# Altium integrated library micro_sd.IntLib: 1 symbol
Pins are listed as number, name and electrical type; pins without a type are passive.

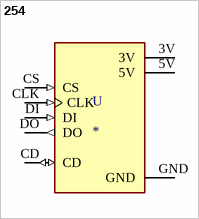
[diagram p0: symbol 254]

## 254
designator U
MICROSD CARD BREAKOUT 5V OR 3V; MP: 254; MF: Adafruit; Package: None; Value: *; Price: None; Availability: Unavailable; SnapEDA_Link: https://www.snapeda.com/parts/254/Adafruit%20Industries/view-part/4653174/?ref=snap
footprint MODULE_254
pins: 3V (power), 5V (power), CD (io), CLK (in), CS (in), DI (in), DO (out), GND (power)